# Altium footprint library my_footprints.PcbLib: 13 footprints
Each footprint in its own frame and in the unit in brackets; x right, y up, seen from the top. Pads: shape width x height; smd on the part's side, far side on the other; paste and mask are expansions set on the pad; w line width, h text height; cw(c..) or ccw(c..) is an arc to the next point about the centre after c.
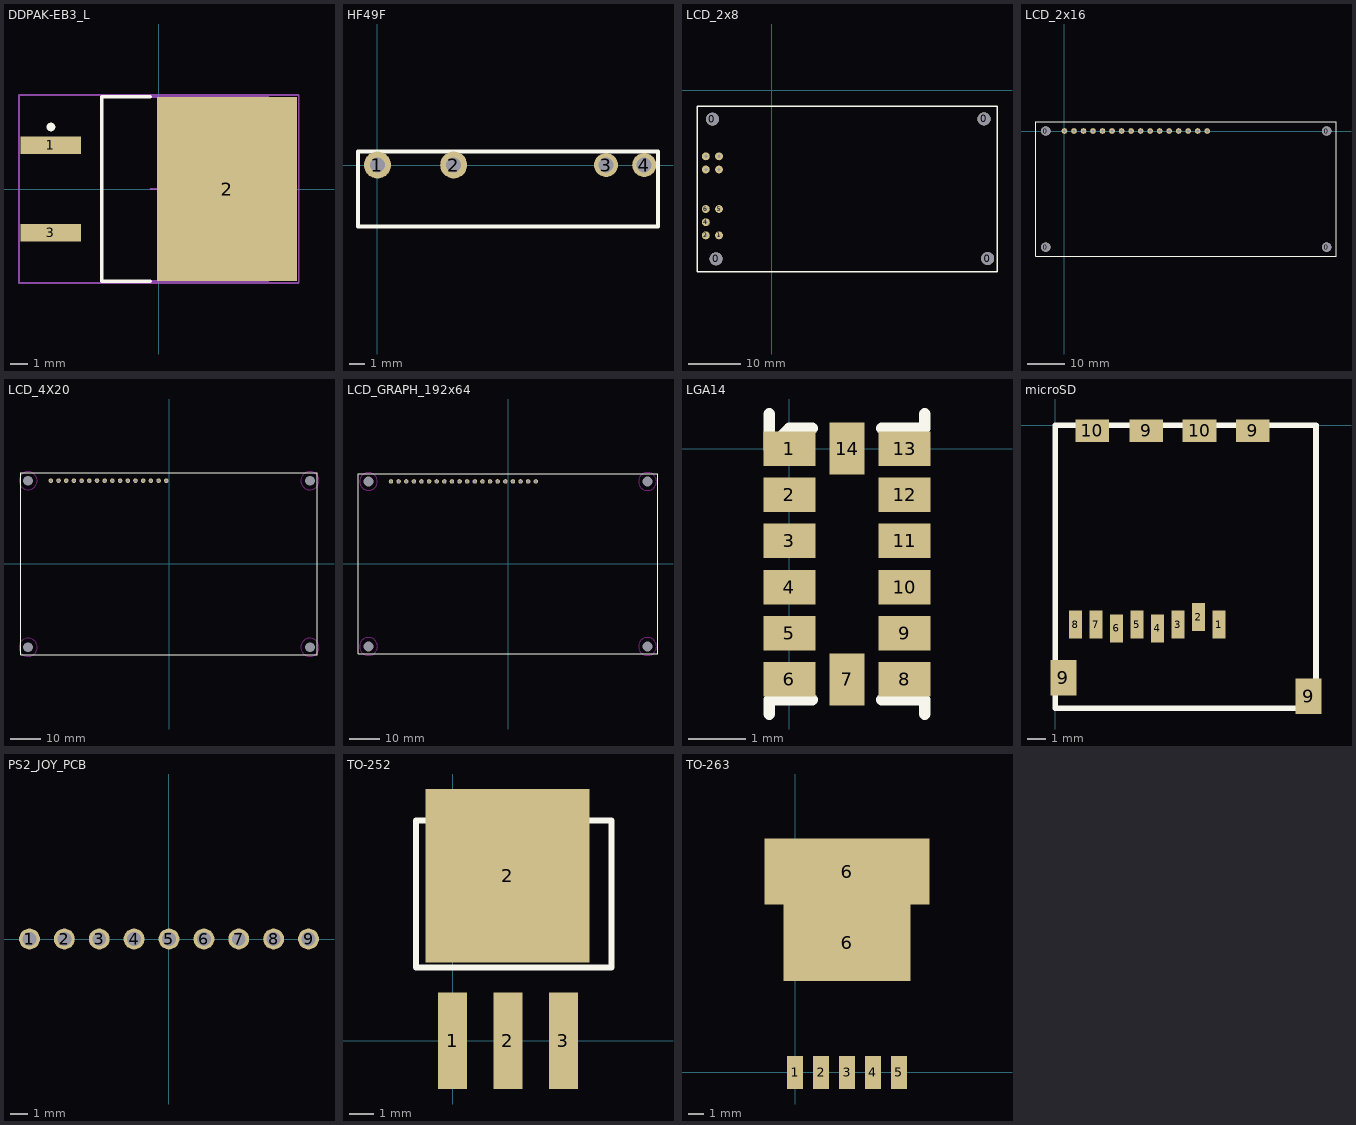
[diagram p0: the footprints below, top view; thin cyan lines are the x and y axes]

## DDPAK-EB3_L [mm] "D2-PAK, 4-Leads, Body 9x10.2mm, Pitch 2.54mm, Lead Span 14.9mm, IPC High Density"
height 4.83
pads (3):
  rect 3.5x1 smd: 1(-6.25,2.54) 3(-6.25,-2.54)
  rect 8.1x10.65 smd: 2(3.95,0)
Top Overlay:
  circle w0.25: c-6.25,3.59 r0.125
  lines w0.2: -0.5,-5.35 -3.3,-5.35 -3.3,5.35 -0.5,5.35
Mechanical 13:
  lines w0.1: -3.3,-5.325 -3.3,5.325 6.35,5.325 6.35,-5.325 -3.3,-5.325
Mechanical 15:
  lines w0.1: -0.5,0 0.5,0 ; 0,-0.5 0,0.5 ; -8.1,-5.45 -8.1,5.45 8.1,5.45 8.1,-5.45 -8.1,-5.45
3D body: height 4.83, standoff 0, extent -3.3,-5.325 6.35,5.325

## HF49F [mm] "MINIATURE 5A/250VAC RElaY"
height 12.5
pads (4):
  round 1.8 hole 1: 1(0,0) 2(5.08,0)
  round 1.6 hole 1: 3(15.24,0) 4(17.78,0)
Top Overlay:
  lines w0.3: -1.3,-4.1 -1.3,0.9 -1.25,0.9 18.7,0.9 18.7,-4.1 -1.3,-4.1
3D body: height 12.5, standoff 0, extent -1.3,-4.1 18.7,0.9

## LCD_2x8 [mm]
pads (13):
  round 2.5 hole 2.5: 0(-11.425,-5.55) 0(-10.725,-32.45) 0(40.9,-5.5) 0(41.6,-32.4)
  round 1.524 hole 0.6: 1(-10.16,-27.94) 2(-12.7,-27.94) 4(-12.7,-25.4) 5(-10.16,-22.86) 6(-12.7,-22.86) 11(-10.16,-15.24) 12(-12.7,-15.24) 13(-10.16,-12.7) 14(-12.7,-12.7)
Top Overlay:
  lines w0.254: -14.4,-34.9 -14.4,-3.1 43.4,-3.1 43.4,-34.9 29.9,-34.9 -14.4,-34.9
3D body: height 10, standoff 4.5, extent -14.575,-35.025 43.425,-3.025

## LCD_2x16 [mm]
pads (20):
  round 2.5 hole 2.5: 0(-5,-31) 0(-5,0) 0(70,-31) 0(70,0)
  round 1.5 hole 0.9: 1(0,0) 2(2.54,0) 3(5.08,0) 4(7.62,0) 5(10.16,0) 6(12.7,0) 7(15.24,0) 8(17.78,0) 9(20.32,0) 10(22.86,0) 11(25.4,0) 12(27.94,0) 13(30.48,0) 14(33.02,0) 15(35.56,0) 16(38.1,0)
Top Overlay:
  lines w0.3: -7.6,-33.5 -7.6,2.54 72.5,2.54 72.5,-33.5 -7.6,-33.5
3D body: height 20, standoff 6.1, extent -7.5,-33.5 72.5,2.5

## LCD_4X20 [mm]
pads (20):
  round 0 hole 3.2: 0(-46.5,-27.55) 0(-46.5,27.45) 0(46.5,-27.55) 0(46.5,27.45)
  round 1.5 hole 0.9: 1(-39,27.46) 2(-36.46,27.46) 3(-33.92,27.46) 4(-31.38,27.46) 5(-28.84,27.46) 6(-26.3,27.46) 7(-23.76,27.46) 8(-21.22,27.46) 9(-18.68,27.46) 10(-16.14,27.46) 11(-13.6,27.46) 12(-11.06,27.46) 13(-8.52,27.46) 14(-5.98,27.46) 15(-3.44,27.46) 16(-0.9,27.46)
Top Overlay:
  lines w0.3: -49,-30 -49,30 49,30 49,-30 -49,-30
Keep-Out Layer:
  circle w0.2: c-46.5,27.45 r2.958
  circle w0.2: c-46.5,-27.55 r3
  circle w0.2: c46.5,-27.55 r3
  circle w0.2: c46.5,27.45 r3
3D body: height 19.45, standoff 9.95, extent -49,-30.05 49,29.95

## LCD_GRAPH_192x64 [mm]
pads (24):
  round 0 hole 3.2: 0(-46.5,-27.55) 0(-46.5,27.45) 0(46.5,-27.55) 0(46.5,27.45)
  round 1.5 hole 0.9: 1(-39,27.46) 2(-36.46,27.46) 3(-33.92,27.46) 4(-31.38,27.46) 5(-28.84,27.46) 6(-26.3,27.46) 7(-23.76,27.46) 8(-21.22,27.46) 9(-18.68,27.46) 10(-16.14,27.46) 11(-13.6,27.46) 12(-11.06,27.46) 13(-8.52,27.46) 14(-5.98,27.46) 15(-3.44,27.46) 16(-0.9,27.46) 17(1.64,27.46) 18(4.18,27.46) 19(6.72,27.46) 20(9.26,27.46)
Top Overlay:
  lines w0.3: -50,-30 -50,30 50,30 50,-30 -50,-30
Keep-Out Layer:
  circle w0.2: c-46.5,27.45 r2.958
  circle w0.2: c-46.5,-27.55 r3
  circle w0.2: c46.5,-27.55 r3
  circle w0.2: c46.5,27.45 r3
3D body: height 18.4, standoff 10, extent -50,-30.025 50,29.975

## LGA14 [mm]
pads (14):
  rect 0.9x0.6 smd: 1(0,0) 2(0,-0.8) 3(0,-1.6) 4(0,-2.4) 5(0,-3.2) 6(0,-4) 8(2,-4) 9(2,-3.2) 10(2,-2.4) 11(2,-1.6) 12(2,-0.8) 13(2,0)
  rect 0.6x0.9 smd: 7(1,-4) 14(1,0)
Top Overlay:
  lines w0.2: -0.35,-4.6 -0.35,-4.35 0.4,-4.35 ; -0.35,0.6 -0.35,0 0,0.35 0.4,0.35 ; 1.6,-4.35 2.35,-4.35 2.35,-4.6 ; 1.6,0.35 2.35,0.35 2.35,0.6

## microSD [mm] "ATTEND  112A-TAAR-R02"
height 1.8
pads (14):
  rect 0.7x1.5 smd: 1(8.8,-10.7) 2(7.7,-10.3) 3(6.6,-10.7) 4(5.5,-10.9) 5(4.4,-10.7) 6(3.3,-10.9) 7(2.2,-10.7) 8(1.1,-10.7)
  rect 1.4x1.9 smd: 9(0.45,-13.55) 9(13.6,-14.55)
  rect 1.8x1.2 smd: 9(4.9,-0.3) 9(10.6,-0.3) 10(2,-0.3) 10(7.75,-0.3)
Top Overlay:
  lines w0.3: 0,-15.2 14,-15.2 14,0 0,0 0,-15.2
3D body: height 1.8, standoff 0, extent 0,-15.2 14,0
3D body: height 1.7, standoff 0.9, extent 0.1,-20.1 11.1,-15.2

## PCBComponent_1 [mm]

## PCBComponent_1 - duplicate [mm]

## PS2_JOY_PCB [mm]
pads (9):
  round 1.2 hole 0.8: 1(-8,0) 2(-6,0) 3(-4,0) 4(-2,0) 5(0,0) 6(2,0) 7(4,0) 8(6,0) 9(8,0)
3D body: height 23.5, standoff 0.3, extent -41.387,-27.5 43.387,4

## TO-252 [mm]
pads (4):
  rect 1.2x4 smd: 1(0,0) 2(2.3,0) 3(4.6,0)
  rect 6.8x7.2 smd: 2(2.286,6.858)
Top Overlay:
  lines w0.254: -1.524,3.048 6.604,3.048 6.604,9.144 -1.524,9.144 -1.524,3.048
3D body: height 2.3, standoff -0.01, extent -0.992,-0.405 5.588,9.295

## TO-263 [mm]
height 5
pads (7):
  rect 1.07x2.16 smd: 1(0,0) 2(1.7,0) 3(3.4,0) 4(5.1,0) 5(6.8,0)
  rect 8.33x5 smd: 6(3.4,8.5)
  rect 10.8x4.3 smd: 6(3.4,13.15)
3D body: height 4.88, standoff 0.08, extent -1.55,-0.915 8.45,14.755